# EAGLE library part 10029449 (library amphenol)
HDMI Type A Receptacle
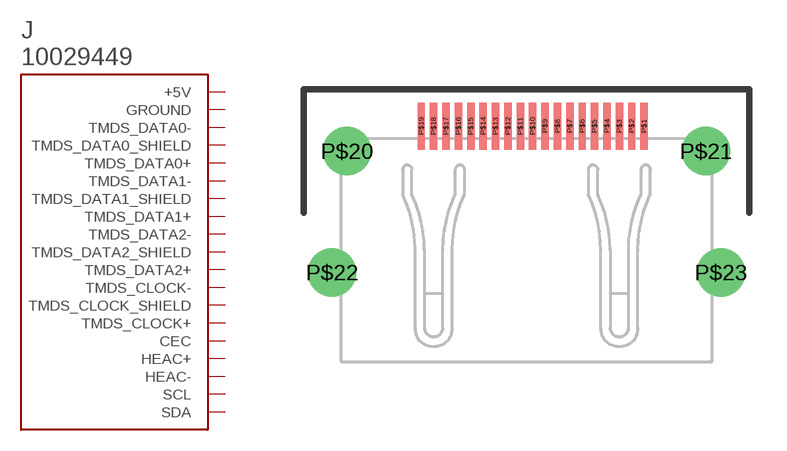
[diagram p0: symbol with the pads of 10029449; footprint 10029449]

Designator prefix J

## 10029449-001RLF  [10029449]
P$1  TMDS_DATA2+
P$2  TMDS_DATA2_SHIELD
P$3  TMDS_DATA2-
P$4  TMDS_DATA1+
P$5  TMDS_DATA1_SHIELD
P$6  TMDS_DATA1-
P$7  TMDS_DATA0+
P$8  TMDS_DATA0_SHIELD
P$9  TMDS_DATA0-
P$10  TMDS_CLOCK+
P$11  TMDS_CLOCK_SHIELD
P$12  TMDS_CLOCK-
P$13  CEC
P$14  HEAC+
P$15  SCL
P$16  SDA
P$17  GROUND
P$18  +5V
P$19  HEAC-

## Footprint 10029449 (pad centres in mm)
smd 0.3 x 1.9: P$1 4.75,5; P$2 4.25,5; P$3 3.75,5; P$4 3.25,5; P$5 2.75,5; P$6 2.25,5; P$7 1.75,5; P$8 1.25,5; P$9 0.75,5; P$10 0.25,5; P$11 -0.25,5; P$12 -0.75,5; P$13 -1.25,5; P$14 -1.75,5; P$15 -2.25,5; P$16 -2.75,5; P$17 -3.25,5; P$18 -3.75,5; P$19 -4.25,5
drill 1.3: P$20 -7.25,4; P$21 7.25,4; P$22 -7.85,-0.9; P$23 7.85,-0.9